# EAGLE library part LPC1343_QFN32 (library anykey)
LPC1343 NXP Cortex M3, 72 MHz, USB, in a QFN32 package (LPC1343FHN33)
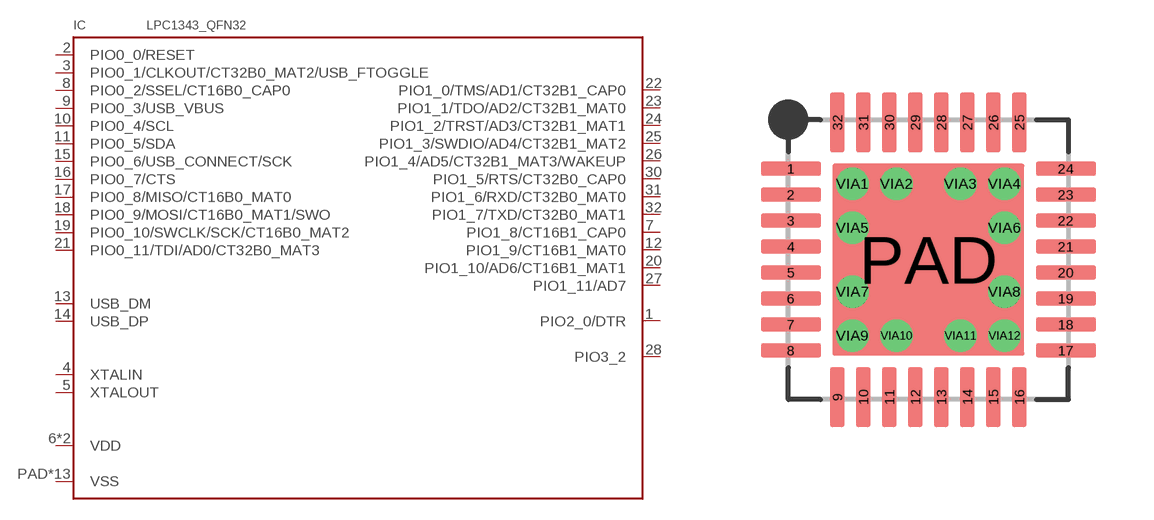
[diagram p55: symbol with the pads of QFN32-0.65-EP-VIAS; footprint QFN32-0.65-EP-VIAS]

Designator prefix IC

## LPC1343_QFN32FHN33  [QFN32-0.65-EP-VIAS]
1  PIO2_0/DTR
2  PIO0_0/RESET
3  PIO0_1/CLKOUT/CT32B0_MAT2/USB_FTOGGLE
4  XTALIN  in
5  XTALOUT  out
6  VDD  pwr
7  PIO1_8/CT16B1_CAP0
8  PIO0_2/SSEL/CT16B0_CAP0
9  PIO0_3/USB_VBUS
10  PIO0_4/SCL
11  PIO0_5/SDA
12  PIO1_9/CT16B1_MAT0
13  USB_DM
14  USB_DP
15  PIO0_6/USB_CONNECT/SCK
16  PIO0_7/CTS
17  PIO0_8/MISO/CT16B0_MAT0
18  PIO0_9/MOSI/CT16B0_MAT1/SWO
19  PIO0_10/SWCLK/SCK/CT16B0_MAT2
20  PIO1_10/AD6/CT16B1_MAT1
21  PIO0_11/TDI/AD0/CT32B0_MAT3
22  PIO1_0/TMS/AD1/CT32B1_CAP0
23  PIO1_1/TDO/AD2/CT32B1_MAT0
24  PIO1_2/TRST/AD3/CT32B1_MAT1
25  PIO1_3/SWDIO/AD4/CT32B1_MAT2
26  PIO1_4/AD5/CT32B1_MAT3/WAKEUP
27  PIO1_11/AD7
28  PIO3_2
29  VDD  pwr
30  PIO1_5/RTS/CT32B0_CAP0
31  PIO1_6/RXD/CT32B0_MAT0
32  PIO1_7/TXD/CT32B0_MAT1
PAD  VSS  pwr
VIA1  VSS  pwr
VIA2  VSS  pwr
VIA3  VSS  pwr
VIA4  VSS  pwr
VIA5  VSS  pwr
VIA6  VSS  pwr
VIA7  VSS  pwr
VIA8  VSS  pwr
VIA9  VSS  pwr
VIA10  VSS  pwr
VIA11  VSS  pwr
VIA12  VSS  pwr

## Footprint QFN32-0.65-EP-VIAS (pad centres in mm)
QFN32, 0.65mm pitch, exposed pad, 12 thermal vias
smd 1.5 x 0.36: 1 -3.438,2.275; 2 -3.438,1.625; 3 -3.438,0.975; 4 -3.438,0.325; 5 -3.438,-0.325; 6 -3.438,-0.975; 7 -3.438,-1.625; 8 -3.438,-2.275; 17 3.438,-2.275; 18 3.438,-1.625; 19 3.438,-0.975; 20 3.438,-0.325; 21 3.438,0.325; 22 3.438,0.975; 23 3.438,1.625; 24 3.438,2.275
smd 0.36 x 1.5: 9 -2.275,-3.438; 10 -1.625,-3.438; 11 -0.975,-3.438; 12 -0.325,-3.438; 13 0.325,-3.438; 14 0.975,-3.438; 15 1.625,-3.438; 16 2.275,-3.438; 25 2.275,3.438; 26 1.625,3.438; 27 0.975,3.438; 28 0.325,3.438; 29 -0.325,3.438; 30 -0.975,3.438; 31 -1.625,3.438; 32 -2.275,3.438
smd 4.8 x 4.8: PAD 0,0
drill 0.3: VIA1 -1.9,1.9; VIA2 -0.8,1.9; VIA3 0.8,1.9; VIA4 1.9,1.9; VIA5 -1.9,0.8; VIA6 1.9,0.8; VIA7 -1.9,-0.8; VIA8 1.9,-0.8; VIA9 -1.9,-1.9; VIA10 -0.8,-1.9; VIA11 0.8,-1.9; VIA12 1.9,-1.9